# EAGLE library part DG417 (library ic)
DG417: SPST analog switch (Maxim) 1 "off" switch ±15V, 30Ω Ron, 175ns tswitch TTL level inputs, separate digital supply
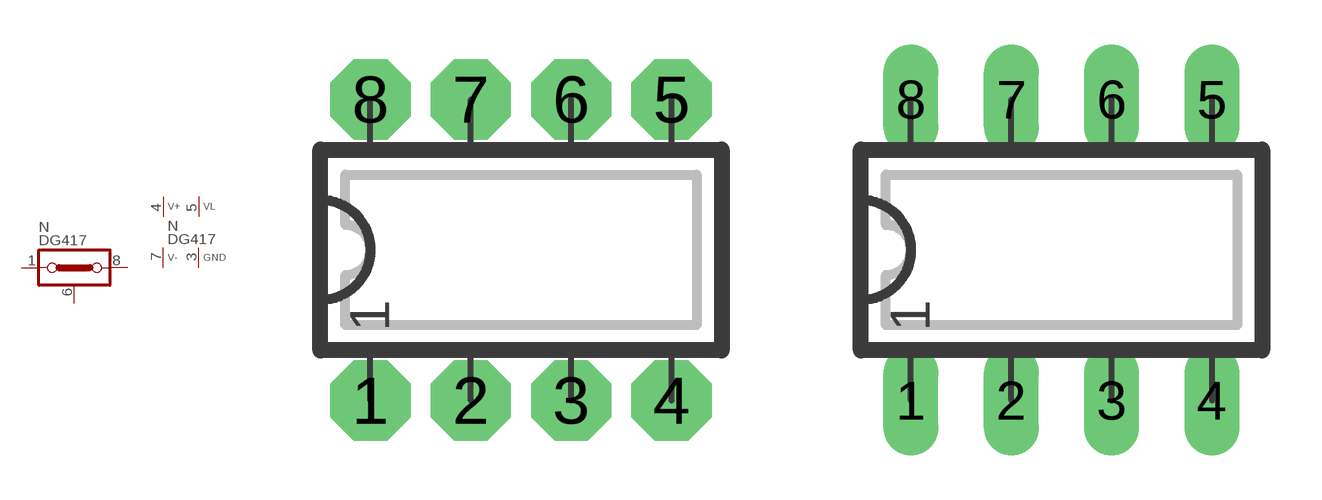
[diagram p6: symbol with the pads of DIP08N; footprints DIP08N, DIP08L]

Designator prefix N; gates  =SD1X1OFF P=V+-LGND

## DG417N  [DIP08N]
1   :S1
3  P:GND  pwr
4  P:V+  pwr
5  P:VL  pwr
6   :D  in
7  P:V-  pwr
8   :S2

## DG417  [DIP08L]
Pads as for DIP08N

## DG417L  [DIP08L]
Pads as for DIP08N

## DG417R  [DIP08R]
Pads as for DIP08N

## DG417S  [SO08]
Pads as for DIP08N

## Footprint DIP08N (pad centres in mm)
DIP-8 Standard IC package, 8 pins
drill 0.813 pad 2.032 octagon: 1 -3.81,-3.81; 2 -1.27,-3.81; 3 1.27,-3.81; 4 3.81,-3.81; 5 3.81,3.81; 6 1.27,3.81; 7 -1.27,3.81; 8 -3.81,3.81

## Footprint DIP08L (pad centres in mm)
DIP-8, long pads Standard IC package, 8 pins
drill 0.813 pad 1.397 long: 1 -3.81,-3.81; 2 -1.27,-3.81; 3 1.27,-3.81; 4 3.81,-3.81; 5 3.81,3.81; 6 1.27,3.81; 7 -1.27,3.81; 8 -3.81,3.81

## Footprint DIP08R (pad centres in mm)
DIP-8, reduced pads Standard IC package, 8 pins
drill 0.813 pad 1.397 square: 1 -3.81,-3.81; 2 -1.27,-3.81; 3 1.27,-3.81; 4 3.81,-3.81; 5 3.81,3.81; 6 1.27,3.81; 7 -1.27,3.81; 8 -3.81,3.81

## Footprint SO08 (pad centres in mm)
SO-8, SMD SOIC IC package, 8 pins
smd 0.635 x 1.778: 1 -1.905,-2.857; 2 -0.635,-2.857; 3 0.635,-2.857; 4 1.905,-2.857; 5 1.905,2.857; 6 0.635,2.857; 7 -0.635,2.857; 8 -1.905,2.857